# EAGLE library part QUAD-OPTOISOLATOR (library discrete)
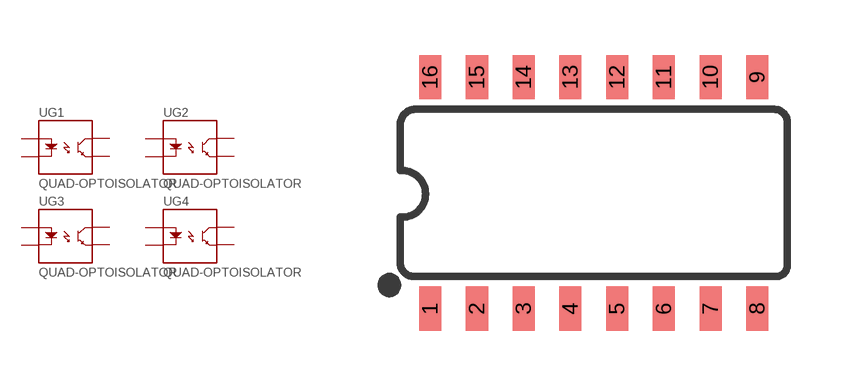
[diagram p7: symbol with the pads of SO16; footprint SO16]

Designator prefix U; gates G1=OPTOISOLATOR_SINGLE G2=OPTOISOLATOR_SINGLE G3=OPTOISOLATOR_SINGLE G4=OPTOISOLATOR_SINGLE

## QUAD-OPTOISOLATOR (PROD_ID: IC-14121; VALUE: TLP290-4)  [SO16]
1  G1:A1
2  G1:C1
3  G2:A1
4  G2:C1
5  G3:A1
6  G3:C1
7  G4:A1
8  G4:C1
9  G4:EM1
10  G4:CL1
11  G3:EM1
12  G3:CL1
13  G2:EM1
14  G2:CL1
15  G1:EM1
16  G1:CL1

## Footprint SO16 (pad centres in mm)
smd 0.6 x 1.2: 1 -4.445,-3.15; 2 -3.175,-3.15; 3 -1.905,-3.15; 4 -0.635,-3.15; 5 0.635,-3.15; 6 1.905,-3.15; 7 3.175,-3.15; 8 4.445,-3.15; 9 4.445,3.15; 10 3.175,3.15; 11 1.905,3.15; 12 0.635,3.15; 13 -0.635,3.15; 14 -1.905,3.15; 15 -3.175,3.15; 16 -4.445,3.15